# Altium integrated library Linear Technology Power Management LDO Linear Regulators.IntLib: 2339 symbols (part 68 of 131)
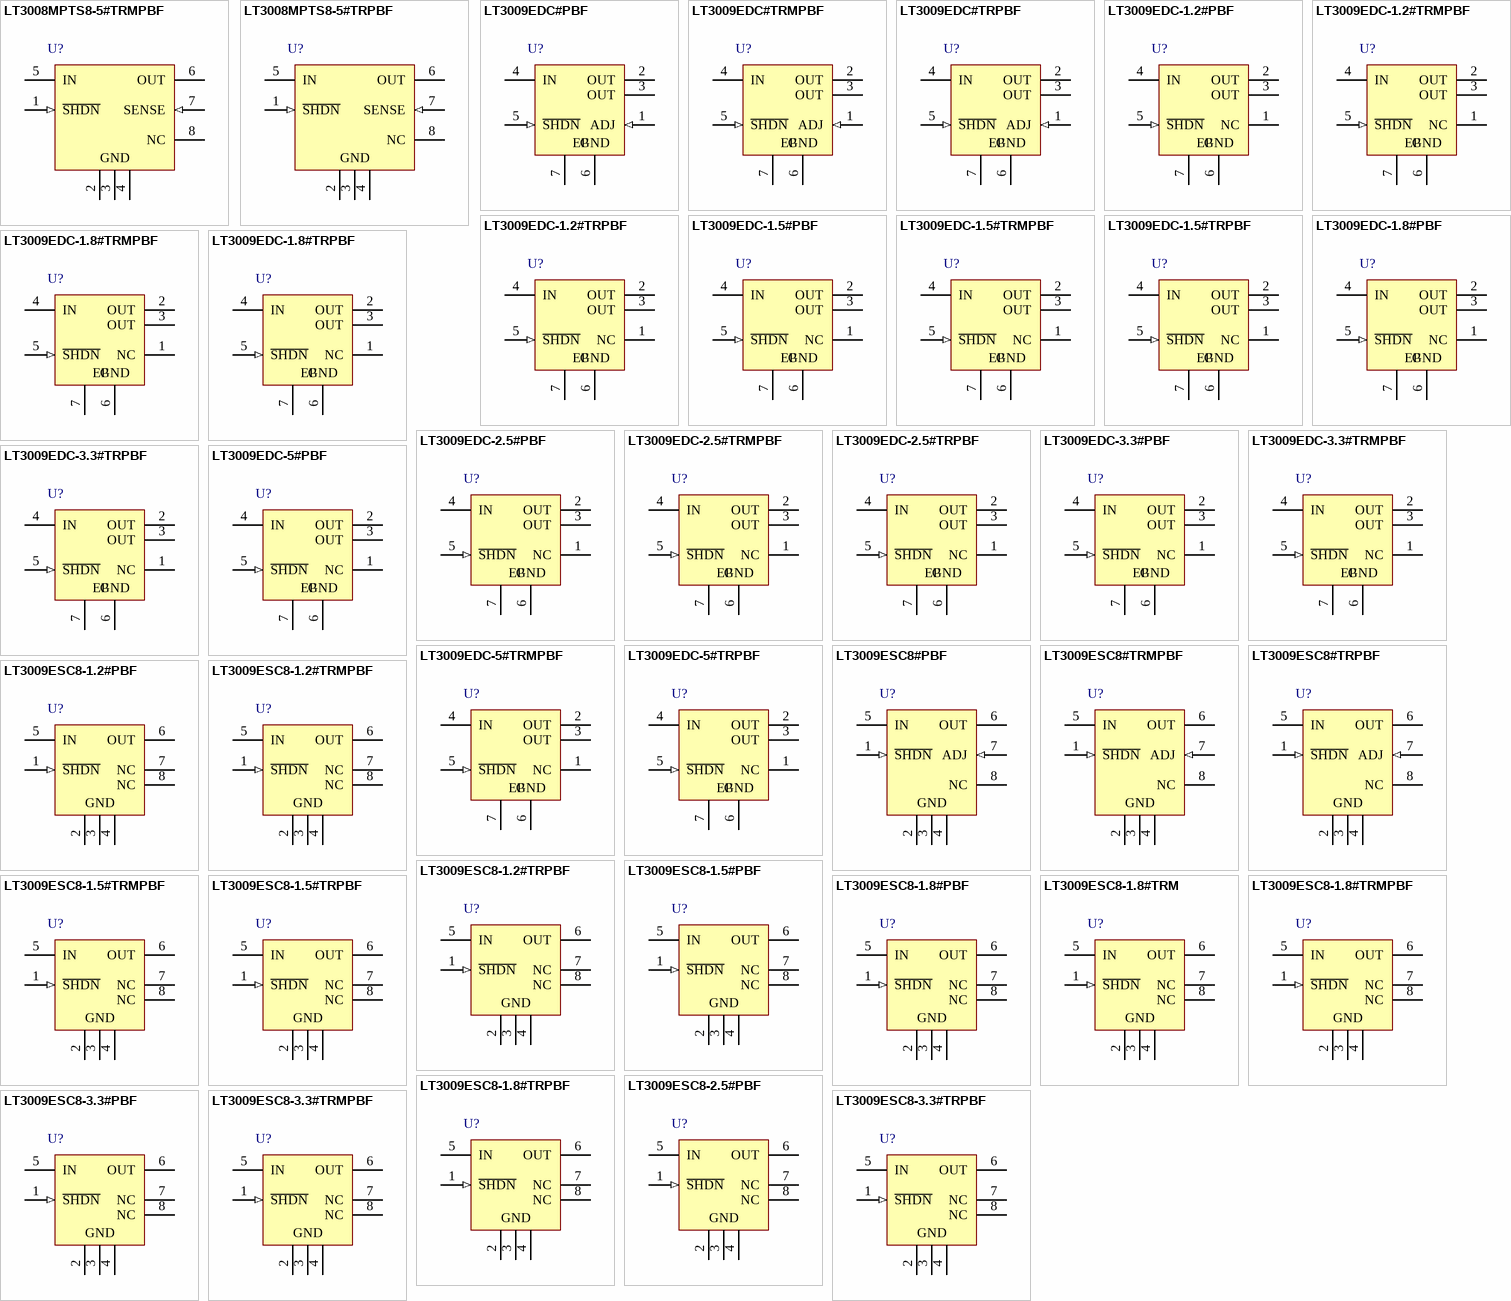
[diagram p136: symbols LT3008MPTS8-5#TRMPBF to LT3009ESC8-3.3#TRPBF]

## LT3009ESC8-2.5#PBF
designator U?
3 uA IQ, 20 mA Low Dropout Linear Regulator, 1.6 to 20 V Vin, 2.5 V Vout, 8-pin SOT23 (SC8-8), -40 to 125 degC, Pb-Free; Manufacturer: Linear Technology; PartNumber: LT3009ESC8-2.5#PBF; Discrete Pass Element: no; Dropout Voltage(V): 0.28; Iout(mA): 20; Isupply(mA): 0.003; Noise(uV): 150; Number of Outputs: 1; Output Voltage: 2.5 V; PSRR(dB): 63; Vin Min(V): 1.6; DatasheetVersion: Rev. D; PackageVersion: Rev. Ø, 06/2012; PackageReference: SC8-8; PackageDescription: 8-Pin Plastic SC70, Body 2 x 1.25 mm, Pitch 0.5 mm; RoHS: TRUE; Shutdown Current(uA): 1; Vin Max(V): 20; Mounting Technology: Surface Mount; Code_JEDEC: MO-203; ComponentLink1Description: Manufacturer URL; ComponentLink1URL: http://www.linear.com/; ComponentLink2Description: Datasheet; ComponentLink2URL: http://cds.linear.com/docs/en/datasheet/3009fd.pdf; ComponentLink3Description: Package Specification; ComponentLink3URL: http://cds.linear.com/docs/en/packaging/SOT_8_05-08-1639.pdf
footprint LT-SC8-8-SC70_N (SOT23, 8-Leads, Body 2x1.25mm, Pitch 0.5mm, IPC Medium Density)
footprint LT-SC8-8-SC70_L (SOT23, 8-Leads, Body 2x1.25mm, Pitch 0.5mm, IPC High Density)
footprint LT-SC8-8-SC70_M (SOT23, 8-Leads, Body 2x1.25mm, Pitch 0.5mm, IPC Low Density)
pins: 1 ~{SHDN} (in) "Shutdown. Pulling the S\H\D\N\ pin low puts the LT3009 into a low power state and turns the output off. If unused, tie the S\H\D\N\ pin to VIN. The LT3009 does not function if the S\H\D\N\ pin is not connected. The S\H\D\N\ (See Datasheet)", 2 GND (power) "Ground. Connect the bottom of the resistor divider that sets output voltage directly to GND for the best regulation.", 3 GND (power) "Ground. Connect the bottom of the resistor divider that sets output voltage directly to GND for the best regulation.", 4 GND (power) "Ground. Connect the bottom of the resistor divider that sets output voltage directly to GND for the best regulation.", 5 IN (power) "Input. The IN pin supplies power to the device. The LT3009 requires a bypass capacitor at IN if the device is more than six inches away from the main input fi lter capacitor. In general, the output impedance of a battery (See Datasheet)", 6 OUT (power) "Output. This pin supplies power to the load. Use a minimum output capacitor of 1uF to prevent oscillations. Large load transient applications require larger output capacitors to limit peak voltage transients. See the (See Datasheet)", 7 NC "No Connect. For the adjustable voltage version, Pin 8 is an NC pin in the SC70 package. For the fixed voltage versions, Pin 7 and Pin 8 are NC pins in the SC70 package, and Pin 1 is an NC pin in the DFN package. NC pins are (See Datasheet)", 8 NC "No Connect. For the adjustable voltage version, Pin 8 is an NC pin in the SC70 package. For the fixed voltage versions, Pin 7 and Pin 8 are NC pins in the SC70 package, and Pin 1 is an NC pin in the DFN package. NC pins are (See Datasheet)"

## LT3009ESC8-3.3#PBF
designator U?
3 uA IQ, 20 mA Low Dropout Linear Regulator, 1.6 to 20 V Vin, 3.3 V Vout, 8-pin SOT23 (SC8-8), -40 to 125 degC, Pb-Free; Manufacturer: Linear Technology; PartNumber: LT3009ESC8-3.3#PBF; Discrete Pass Element: no; Dropout Voltage(V): 0.28; Iout(mA): 20; Isupply(mA): 0.003; Noise(uV): 150; Number of Outputs: 1; Output Voltage: 3.3 V; PSRR(dB): 61; Vin Min(V): 1.6; DatasheetVersion: Rev. D; PackageVersion: Rev. Ø, 06/2012; PackageReference: SC8-8; PackageDescription: 8-Pin Plastic SC70, Body 2 x 1.25 mm, Pitch 0.5 mm; Supplier 1: Newark; Supplier Part Number 1: 78T3818; RoHS: TRUE; Shutdown Current(uA): 1; Vin Max(V): 20; Mounting Technology: Surface Mount; Code_JEDEC: MO-203; ComponentLink1Description: Manufacturer URL; ComponentLink1URL: http://www.linear.com/; ComponentLink2Description: Datasheet; ComponentLink2URL: http://cds.linear.com/docs/en/datasheet/3009fd.pdf; ComponentLink3Description: Package Specification; ComponentLink3URL: http://cds.linear.com/docs/en/packaging/SOT_8_05-08-1639.pdf
footprint LT-SC8-8-SC70_N (SOT23, 8-Leads, Body 2x1.25mm, Pitch 0.5mm, IPC Medium Density)
footprint LT-SC8-8-SC70_L (SOT23, 8-Leads, Body 2x1.25mm, Pitch 0.5mm, IPC High Density)
footprint LT-SC8-8-SC70_M (SOT23, 8-Leads, Body 2x1.25mm, Pitch 0.5mm, IPC Low Density)
pins: 1 ~{SHDN} (in) "Shutdown. Pulling the S\H\D\N\ pin low puts the LT3009 into a low power state and turns the output off. If unused, tie the S\H\D\N\ pin to VIN. The LT3009 does not function if the S\H\D\N\ pin is not connected. The S\H\D\N\ (See Datasheet)", 2 GND (power) "Ground. Connect the bottom of the resistor divider that sets output voltage directly to GND for the best regulation.", 3 GND (power) "Ground. Connect the bottom of the resistor divider that sets output voltage directly to GND for the best regulation.", 4 GND (power) "Ground. Connect the bottom of the resistor divider that sets output voltage directly to GND for the best regulation.", 5 IN (power) "Input. The IN pin supplies power to the device. The LT3009 requires a bypass capacitor at IN if the device is more than six inches away from the main input fi lter capacitor. In general, the output impedance of a battery (See Datasheet)", 6 OUT (power) "Output. This pin supplies power to the load. Use a minimum output capacitor of 1uF to prevent oscillations. Large load transient applications require larger output capacitors to limit peak voltage transients. See the (See Datasheet)", 7 NC "No Connect. For the adjustable voltage version, Pin 8 is an NC pin in the SC70 package. For the fixed voltage versions, Pin 7 and Pin 8 are NC pins in the SC70 package, and Pin 1 is an NC pin in the DFN package. NC pins are (See Datasheet)", 8 NC "No Connect. For the adjustable voltage version, Pin 8 is an NC pin in the SC70 package. For the fixed voltage versions, Pin 7 and Pin 8 are NC pins in the SC70 package, and Pin 1 is an NC pin in the DFN package. NC pins are (See Datasheet)"

## LT3009ESC8-3.3#TRMPBF
designator U?
3 uA IQ, 20 mA Low Dropout Linear Regulator, 1.6 to 20 V Vin, 3.3 V Vout, 8-pin SOT23 (SC8-8), -40 to 125 degC, Pb-Free, Mini Tape and Reel; Manufacturer: Linear Technology; PartNumber: LT3009ESC8-3.3#TRMPBF; Discrete Pass Element: no; Dropout Voltage(V): 0.28; Iout(mA): 20; Isupply(mA): 0.003; Noise(uV): 150; Number of Outputs: 1; Output Voltage: 3.3 V; PSRR(dB): 61; Vin Min(V): 1.6; DatasheetVersion: Rev. D; PackageVersion: Rev. Ø, 06/2012; PackageReference: SC8-8; PackageDescription: 8-Pin Plastic SC70, Body 2 x 1.25 mm, Pitch 0.5 mm; Supplier 1: Digi-Key; Supplier Part Number 1: LT3009ESC8-3.3#TRMPBF-ND; Supplier 2: Newark; Supplier Part Number 2: 79M3653; Packing: Mini Tape and Reel; RoHS: TRUE; Shutdown Current(uA): 1; Vin Max(V): 20; Mounting Technology: Surface Mount; Code_JEDEC: MO-203; ComponentLink1Description: Manufacturer URL; ComponentLink1URL: http://www.linear.com/; ComponentLink2Description: Datasheet; ComponentLink2URL: http://cds.linear.com/docs/en/datasheet/3009fd.pdf; ComponentLink3Description: Package Specification; ComponentLink3URL: http://cds.linear.com/docs/en/packaging/SOT_8_05-08-1639.pdf
footprint LT-SC8-8-SC70_N (SOT23, 8-Leads, Body 2x1.25mm, Pitch 0.5mm, IPC Medium Density)
footprint LT-SC8-8-SC70_L (SOT23, 8-Leads, Body 2x1.25mm, Pitch 0.5mm, IPC High Density)
footprint LT-SC8-8-SC70_M (SOT23, 8-Leads, Body 2x1.25mm, Pitch 0.5mm, IPC Low Density)
pins: 1 ~{SHDN} (in) "Shutdown. Pulling the S\H\D\N\ pin low puts the LT3009 into a low power state and turns the output off. If unused, tie the S\H\D\N\ pin to VIN. The LT3009 does not function if the S\H\D\N\ pin is not connected. The S\H\D\N\ (See Datasheet)", 2 GND (power) "Ground. Connect the bottom of the resistor divider that sets output voltage directly to GND for the best regulation.", 3 GND (power) "Ground. Connect the bottom of the resistor divider that sets output voltage directly to GND for the best regulation.", 4 GND (power) "Ground. Connect the bottom of the resistor divider that sets output voltage directly to GND for the best regulation.", 5 IN (power) "Input. The IN pin supplies power to the device. The LT3009 requires a bypass capacitor at IN if the device is more than six inches away from the main input fi lter capacitor. In general, the output impedance of a battery (See Datasheet)", 6 OUT (power) "Output. This pin supplies power to the load. Use a minimum output capacitor of 1uF to prevent oscillations. Large load transient applications require larger output capacitors to limit peak voltage transients. See the (See Datasheet)", 7 NC "No Connect. For the adjustable voltage version, Pin 8 is an NC pin in the SC70 package. For the fixed voltage versions, Pin 7 and Pin 8 are NC pins in the SC70 package, and Pin 1 is an NC pin in the DFN package. NC pins are (See Datasheet)", 8 NC "No Connect. For the adjustable voltage version, Pin 8 is an NC pin in the SC70 package. For the fixed voltage versions, Pin 7 and Pin 8 are NC pins in the SC70 package, and Pin 1 is an NC pin in the DFN package. NC pins are (See Datasheet)"

## LT3009ESC8-3.3#TRPBF
designator U?
3 uA IQ, 20 mA Low Dropout Linear Regulator, 1.6 to 20 V Vin, 3.3 V Vout, 8-pin SOT23 (SC8-8), -40 to 125 degC, Pb-Free, Tape and Reel; Manufacturer: Linear Technology; PartNumber: LT3009ESC8-3.3#TRPBF; Discrete Pass Element: no; Dropout Voltage(V): 0.28; Iout(mA): 20; Isupply(mA): 0.003; Noise(uV): 150; Number of Outputs: 1; Output Voltage: 3.3 V; PSRR(dB): 61; Vin Min(V): 1.6; DatasheetVersion: Rev. D; PackageVersion: Rev. Ø, 06/2012; PackageReference: SC8-8; PackageDescription: 8-Pin Plastic SC70, Body 2 x 1.25 mm, Pitch 0.5 mm; Supplier 1: Digi-Key; Supplier Part Number 1: LT3009ESC8-3.3#TRPBF-ND; Supplier 2: Newark; Supplier Part Number 2: 79M3654; Packing: Tape and Reel; RoHS: TRUE; Shutdown Current(uA): 1; Vin Max(V): 20; Mounting Technology: Surface Mount; Code_JEDEC: MO-203; ComponentLink1Description: Manufacturer URL; ComponentLink1URL: http://www.linear.com/; ComponentLink2Description: Datasheet; ComponentLink2URL: http://cds.linear.com/docs/en/datasheet/3009fd.pdf; ComponentLink3Description: Package Specification; ComponentLink3URL: http://cds.linear.com/docs/en/packaging/SOT_8_05-08-1639.pdf
footprint LT-SC8-8-SC70_N (SOT23, 8-Leads, Body 2x1.25mm, Pitch 0.5mm, IPC Medium Density)
footprint LT-SC8-8-SC70_L (SOT23, 8-Leads, Body 2x1.25mm, Pitch 0.5mm, IPC High Density)
footprint LT-SC8-8-SC70_M (SOT23, 8-Leads, Body 2x1.25mm, Pitch 0.5mm, IPC Low Density)
pins: 1 ~{SHDN} (in) "Shutdown. Pulling the S\H\D\N\ pin low puts the LT3009 into a low power state and turns the output off. If unused, tie the S\H\D\N\ pin to VIN. The LT3009 does not function if the S\H\D\N\ pin is not connected. The S\H\D\N\ (See Datasheet)", 2 GND (power) "Ground. Connect the bottom of the resistor divider that sets output voltage directly to GND for the best regulation.", 3 GND (power) "Ground. Connect the bottom of the resistor divider that sets output voltage directly to GND for the best regulation.", 4 GND (power) "Ground. Connect the bottom of the resistor divider that sets output voltage directly to GND for the best regulation.", 5 IN (power) "Input. The IN pin supplies power to the device. The LT3009 requires a bypass capacitor at IN if the device is more than six inches away from the main input fi lter capacitor. In general, the output impedance of a battery (See Datasheet)", 6 OUT (power) "Output. This pin supplies power to the load. Use a minimum output capacitor of 1uF to prevent oscillations. Large load transient applications require larger output capacitors to limit peak voltage transients. See the (See Datasheet)", 7 NC "No Connect. For the adjustable voltage version, Pin 8 is an NC pin in the SC70 package. For the fixed voltage versions, Pin 7 and Pin 8 are NC pins in the SC70 package, and Pin 1 is an NC pin in the DFN package. NC pins are (See Datasheet)", 8 NC "No Connect. For the adjustable voltage version, Pin 8 is an NC pin in the SC70 package. For the fixed voltage versions, Pin 7 and Pin 8 are NC pins in the SC70 package, and Pin 1 is an NC pin in the DFN package. NC pins are (See Datasheet)"

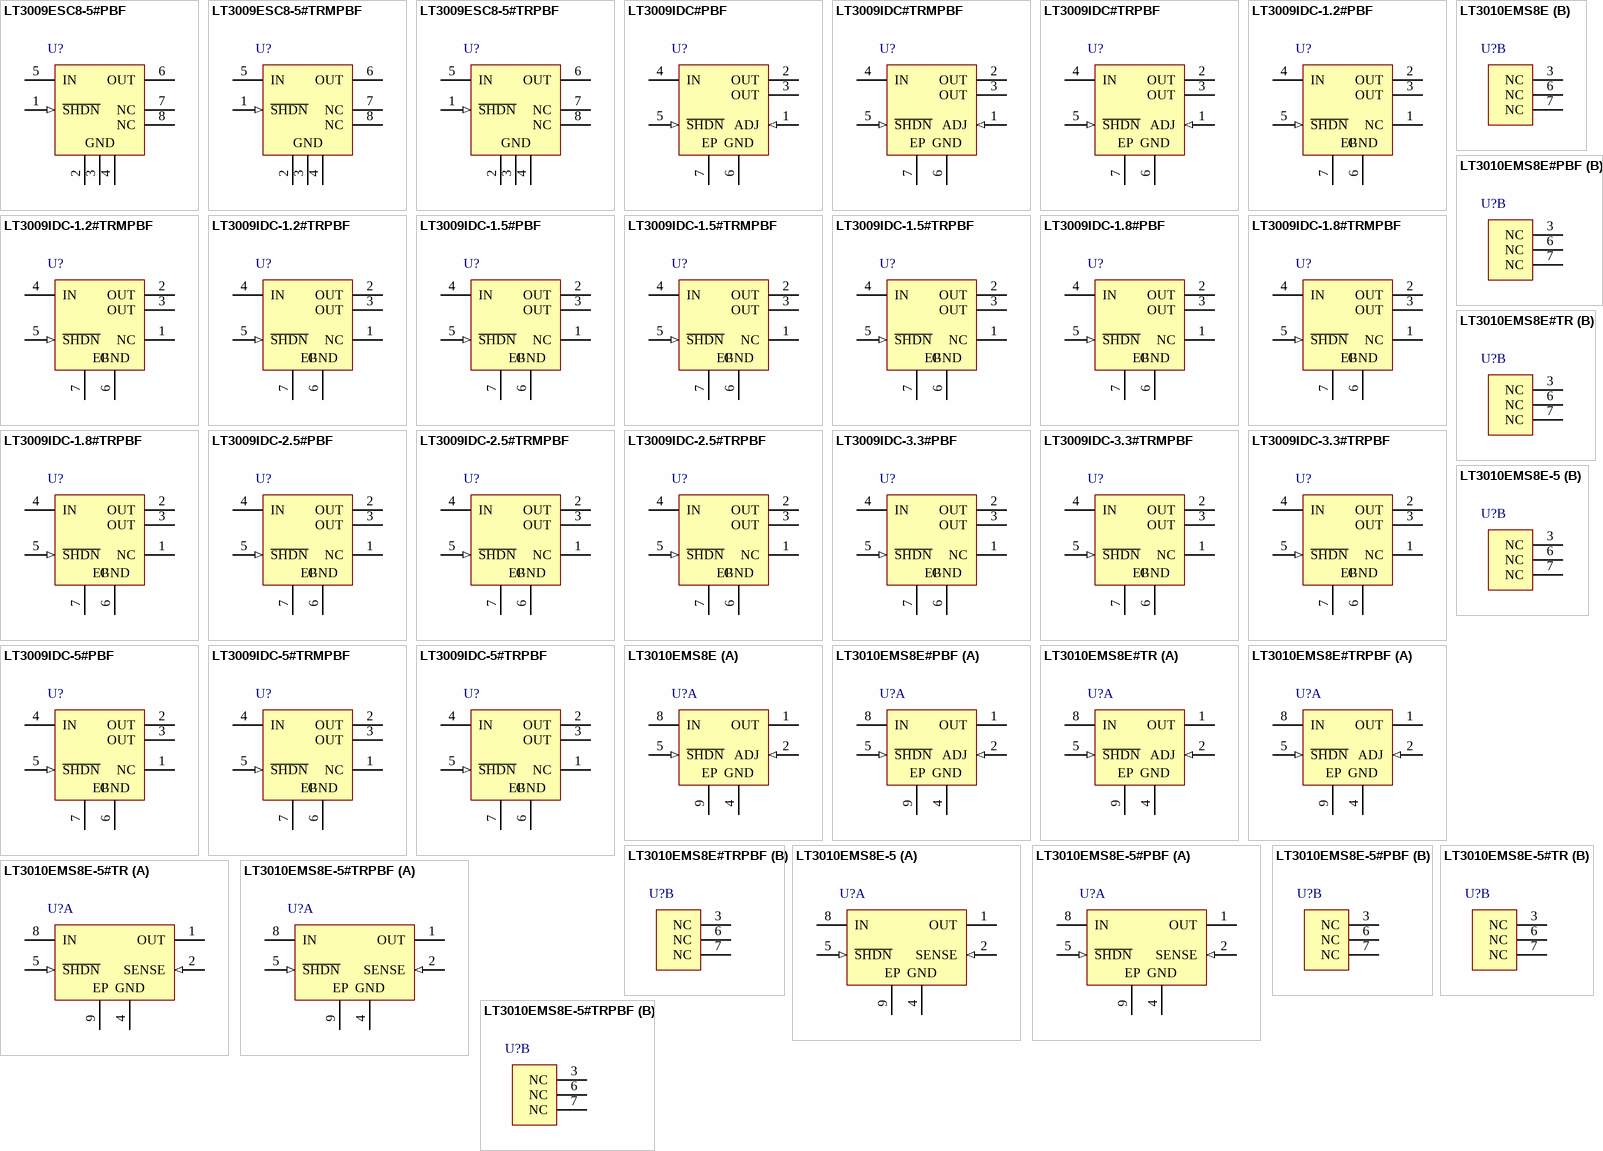
[diagram p42: symbols LT3009ESC8-5#PBF to LT3010EMS8E-5#TRPBF]

## LT3009ESC8-5#PBF
designator U?
3 uA IQ, 20 mA Low Dropout Linear Regulator, 1.6 to 20 V Vin, 5 V Vout, 8-pin SOT23 (SC8-8), -40 to 125 degC, Pb-Free; Manufacturer: Linear Technology; PartNumber: LT3009ESC8-5#PBF; Discrete Pass Element: no; Dropout Voltage(V): 0.28; Iout(mA): 20; Isupply(mA): 0.003; Noise(uV): 150; Number of Outputs: 1; Output Voltage: 5 V; PSRR(dB): 56; Vin Min(V): 1.6; DatasheetVersion: Rev. D; PackageVersion: Rev. Ø, 06/2012; PackageReference: SC8-8; PackageDescription: 8-Pin Plastic SC70, Body 2 x 1.25 mm, Pitch 0.5 mm; Supplier 1: Newark; Supplier Part Number 1: 78T3819; RoHS: TRUE; Shutdown Current(uA): 1; Vin Max(V): 20; Mounting Technology: Surface Mount; Code_JEDEC: MO-203; ComponentLink1Description: Manufacturer URL; ComponentLink1URL: http://www.linear.com/; ComponentLink2Description: Datasheet; ComponentLink2URL: http://cds.linear.com/docs/en/datasheet/3009fd.pdf; ComponentLink3Description: Package Specification; ComponentLink3URL: http://cds.linear.com/docs/en/packaging/SOT_8_05-08-1639.pdf
footprint LT-SC8-8-SC70_N (SOT23, 8-Leads, Body 2x1.25mm, Pitch 0.5mm, IPC Medium Density)
footprint LT-SC8-8-SC70_L (SOT23, 8-Leads, Body 2x1.25mm, Pitch 0.5mm, IPC High Density)
footprint LT-SC8-8-SC70_M (SOT23, 8-Leads, Body 2x1.25mm, Pitch 0.5mm, IPC Low Density)
pins: 1 ~{SHDN} (in) "Shutdown. Pulling the S\H\D\N\ pin low puts the LT3009 into a low power state and turns the output off. If unused, tie the S\H\D\N\ pin to VIN. The LT3009 does not function if the S\H\D\N\ pin is not connected. The S\H\D\N\ (See Datasheet)", 2 GND (power) "Ground. Connect the bottom of the resistor divider that sets output voltage directly to GND for the best regulation.", 3 GND (power) "Ground. Connect the bottom of the resistor divider that sets output voltage directly to GND for the best regulation.", 4 GND (power) "Ground. Connect the bottom of the resistor divider that sets output voltage directly to GND for the best regulation.", 5 IN (power) "Input. The IN pin supplies power to the device. The LT3009 requires a bypass capacitor at IN if the device is more than six inches away from the main input fi lter capacitor. In general, the output impedance of a battery (See Datasheet)", 6 OUT (power) "Output. This pin supplies power to the load. Use a minimum output capacitor of 1uF to prevent oscillations. Large load transient applications require larger output capacitors to limit peak voltage transients. See the (See Datasheet)", 7 NC "No Connect. For the adjustable voltage version, Pin 8 is an NC pin in the SC70 package. For the fixed voltage versions, Pin 7 and Pin 8 are NC pins in the SC70 package, and Pin 1 is an NC pin in the DFN package. NC pins are (See Datasheet)", 8 NC "No Connect. For the adjustable voltage version, Pin 8 is an NC pin in the SC70 package. For the fixed voltage versions, Pin 7 and Pin 8 are NC pins in the SC70 package, and Pin 1 is an NC pin in the DFN package. NC pins are (See Datasheet)"

## LT3009ESC8-5#TRMPBF
designator U?
3 uA IQ, 20 mA Low Dropout Linear Regulator, 1.6 to 20 V Vin, 5 V Vout, 8-pin SOT23 (SC8-8), -40 to 125 degC, Pb-Free, Mini Tape and Reel; Manufacturer: Linear Technology; PartNumber: LT3009ESC8-5#TRMPBF; Discrete Pass Element: no; Dropout Voltage(V): 0.28; Iout(mA): 20; Isupply(mA): 0.003; Noise(uV): 150; Number of Outputs: 1; Output Voltage: 5 V; PSRR(dB): 56; Vin Min(V): 1.6; DatasheetVersion: Rev. D; PackageVersion: Rev. Ø, 06/2012; PackageReference: SC8-8; PackageDescription: 8-Pin Plastic SC70, Body 2 x 1.25 mm, Pitch 0.5 mm; Supplier 1: Digi-Key; Supplier Part Number 1: LT3009ESC8-5#TRMPBF-ND; Packing: Mini Tape and Reel; RoHS: TRUE; Shutdown Current(uA): 1; Vin Max(V): 20; Mounting Technology: Surface Mount; Code_JEDEC: MO-203; ComponentLink1Description: Manufacturer URL; ComponentLink1URL: http://www.linear.com/; ComponentLink2Description: Datasheet; ComponentLink2URL: http://cds.linear.com/docs/en/datasheet/3009fd.pdf; ComponentLink3Description: Package Specification; ComponentLink3URL: http://cds.linear.com/docs/en/packaging/SOT_8_05-08-1639.pdf
footprint LT-SC8-8-SC70_N (SOT23, 8-Leads, Body 2x1.25mm, Pitch 0.5mm, IPC Medium Density)
footprint LT-SC8-8-SC70_L (SOT23, 8-Leads, Body 2x1.25mm, Pitch 0.5mm, IPC High Density)
footprint LT-SC8-8-SC70_M (SOT23, 8-Leads, Body 2x1.25mm, Pitch 0.5mm, IPC Low Density)
pins: 1 ~{SHDN} (in) "Shutdown. Pulling the S\H\D\N\ pin low puts the LT3009 into a low power state and turns the output off. If unused, tie the S\H\D\N\ pin to VIN. The LT3009 does not function if the S\H\D\N\ pin is not connected. The S\H\D\N\ (See Datasheet)", 2 GND (power) "Ground. Connect the bottom of the resistor divider that sets output voltage directly to GND for the best regulation.", 3 GND (power) "Ground. Connect the bottom of the resistor divider that sets output voltage directly to GND for the best regulation.", 4 GND (power) "Ground. Connect the bottom of the resistor divider that sets output voltage directly to GND for the best regulation.", 5 IN (power) "Input. The IN pin supplies power to the device. The LT3009 requires a bypass capacitor at IN if the device is more than six inches away from the main input fi lter capacitor. In general, the output impedance of a battery (See Datasheet)", 6 OUT (power) "Output. This pin supplies power to the load. Use a minimum output capacitor of 1uF to prevent oscillations. Large load transient applications require larger output capacitors to limit peak voltage transients. See the (See Datasheet)", 7 NC "No Connect. For the adjustable voltage version, Pin 8 is an NC pin in the SC70 package. For the fixed voltage versions, Pin 7 and Pin 8 are NC pins in the SC70 package, and Pin 1 is an NC pin in the DFN package. NC pins are (See Datasheet)", 8 NC "No Connect. For the adjustable voltage version, Pin 8 is an NC pin in the SC70 package. For the fixed voltage versions, Pin 7 and Pin 8 are NC pins in the SC70 package, and Pin 1 is an NC pin in the DFN package. NC pins are (See Datasheet)"

## LT3009ESC8-5#TRPBF
designator U?
3 uA IQ, 20 mA Low Dropout Linear Regulator, 1.6 to 20 V Vin, 5 V Vout, 8-pin SOT23 (SC8-8), -40 to 125 degC, Pb-Free, Tape and Reel; Manufacturer: Linear Technology; PartNumber: LT3009ESC8-5#TRPBF; Discrete Pass Element: no; Dropout Voltage(V): 0.28; Iout(mA): 20; Isupply(mA): 0.003; Noise(uV): 150; Number of Outputs: 1; Output Voltage: 5 V; PSRR(dB): 56; Vin Min(V): 1.6; DatasheetVersion: Rev. D; PackageVersion: Rev. Ø, 06/2012; PackageReference: SC8-8; PackageDescription: 8-Pin Plastic SC70, Body 2 x 1.25 mm, Pitch 0.5 mm; Supplier 1: Digi-Key; Supplier Part Number 1: LT3009ESC8-5#TRPBF-ND; Supplier 2: Newark; Supplier Part Number 2: 88M1938; Packing: Tape and Reel; RoHS: TRUE; Shutdown Current(uA): 1; Vin Max(V): 20; Mounting Technology: Surface Mount; Code_JEDEC: MO-203; ComponentLink1Description: Manufacturer URL; ComponentLink1URL: http://www.linear.com/; ComponentLink2Description: Datasheet; ComponentLink2URL: http://cds.linear.com/docs/en/datasheet/3009fd.pdf; ComponentLink3Description: Package Specification; ComponentLink3URL: http://cds.linear.com/docs/en/packaging/SOT_8_05-08-1639.pdf
footprint LT-SC8-8-SC70_N (SOT23, 8-Leads, Body 2x1.25mm, Pitch 0.5mm, IPC Medium Density)
footprint LT-SC8-8-SC70_L (SOT23, 8-Leads, Body 2x1.25mm, Pitch 0.5mm, IPC High Density)
footprint LT-SC8-8-SC70_M (SOT23, 8-Leads, Body 2x1.25mm, Pitch 0.5mm, IPC Low Density)
pins: 1 ~{SHDN} (in) "Shutdown. Pulling the S\H\D\N\ pin low puts the LT3009 into a low power state and turns the output off. If unused, tie the S\H\D\N\ pin to VIN. The LT3009 does not function if the S\H\D\N\ pin is not connected. The S\H\D\N\ (See Datasheet)", 2 GND (power) "Ground. Connect the bottom of the resistor divider that sets output voltage directly to GND for the best regulation.", 3 GND (power) "Ground. Connect the bottom of the resistor divider that sets output voltage directly to GND for the best regulation.", 4 GND (power) "Ground. Connect the bottom of the resistor divider that sets output voltage directly to GND for the best regulation.", 5 IN (power) "Input. The IN pin supplies power to the device. The LT3009 requires a bypass capacitor at IN if the device is more than six inches away from the main input fi lter capacitor. In general, the output impedance of a battery (See Datasheet)", 6 OUT (power) "Output. This pin supplies power to the load. Use a minimum output capacitor of 1uF to prevent oscillations. Large load transient applications require larger output capacitors to limit peak voltage transients. See the (See Datasheet)", 7 NC "No Connect. For the adjustable voltage version, Pin 8 is an NC pin in the SC70 package. For the fixed voltage versions, Pin 7 and Pin 8 are NC pins in the SC70 package, and Pin 1 is an NC pin in the DFN package. NC pins are (See Datasheet)", 8 NC "No Connect. For the adjustable voltage version, Pin 8 is an NC pin in the SC70 package. For the fixed voltage versions, Pin 7 and Pin 8 are NC pins in the SC70 package, and Pin 1 is an NC pin in the DFN package. NC pins are (See Datasheet)"

## LT3009IDC#PBF
designator U?
3 uA IQ, 20 mA Low Dropout Linear Regulator, 1.6 to 20 V Vin, Adjustable Vout, 6-pin SON (DC6-6), -40 to 125 degC, Pb-Free; Manufacturer: Linear Technology; PartNumber: LT3009IDC#PBF; Discrete Pass Element: no; Dropout Voltage(V): 0.28; Iout(mA): 20; Isupply(mA): 0.003; Noise(uV): 150; Number of Outputs: 1; Output Voltage: Adj; PSRR(dB): 72; Vin Min(V): 1.6; Vout Max(V): 19.5; Vout Min(V): 0.6; DatasheetVersion: Rev. D; PackageVersion: Rev. B, 06/2010; PackageReference: DC6-6; PackageDescription: 6-Pin Plastic DFN, Body 2 x 2 mm, Pitch 0.5 mm; Supplier 1: Newark; Supplier Part Number 1: 78T3827; RoHS: TRUE; Shutdown Current(uA): 1; Vin Max(V): 20; Mounting Technology: Surface Mount; Code_JEDEC: MO-229; ComponentLink1Description: Manufacturer URL; ComponentLink1URL: http://www.linear.com/; ComponentLink2Description: Datasheet; ComponentLink2URL: http://cds.linear.com/docs/en/datasheet/3009fd.pdf; ComponentLink3Description: Package Specification; ComponentLink3URL: http://cds.linear.com/docs/en/packaging/DFN_6_05-08-1703.pdf
footprint LT-DC6-6_V (SON, 6-Leads, Body 2x2mm, Pitch 0.5mm, Thermal Pad 1.42x0.61mm)
pins: 1 ADJ (in) "Adjust. This pin is the error amplifier’sinverting terminal. Its 300pA typical input bias current flows out of the pin (see curve of ADJ Pin Bias Current vs Temperature in the Typical Performance Characteristics section)(See Datasheet)", 2 OUT (power) "Output. This pin supplies power to the load. Use a minimum output capacitor of 1uF to prevent oscillations. Large load transient applications require larger output capacitors to limit peak voltage transients. See the (See Datasheet)", 3 OUT (power) "Output. This pin supplies power to the load. Use a minimum output capacitor of 1uF to prevent oscillations. Large load transient applications require larger output capacitors to limit peak voltage transients. See the (See Datasheet)", 4 IN (power) "Input. The IN pin supplies power to the device. The LT3009 requires a bypass capacitor at IN if the device is more than six inches away from the main input filter  capacitor. In general, the output impedance of a battery (See Datasheet)", 5 ~{SHDN} (in) "Shutdown. Pulling the S\H\D\N\ pin low puts the LT3009 into a low power state and turns the output off. If unused, tie the S\H\D\N\ pin to VIN. The LT3009 does not function if the S\H\D\N\ pin is not connected. The S\H\D\N\ (See Datasheet)", 6 GND (power) "Ground. Connect the bottom of the resistor divider that sets output voltage directly to GND for the best regulation.", 7 EP (power) "Ground. The Exposed Pad (backside) of the DFN package is an electrical connection to GND. To ensure optimum performance, solder Pin 7 to the PCB and tie directly to Pin 6."

## LT3009IDC#TRMPBF
designator U?
3 uA IQ, 20 mA Low Dropout Linear Regulator, 1.6 to 20 V Vin, Adjustable Vout, 6-pin SON (DC6-6), -40 to 125 degC, Pb-Free, Mini Tape and Reel; Manufacturer: Linear Technology; PartNumber: LT3009IDC#TRMPBF; Discrete Pass Element: no; Dropout Voltage(V): 0.28; Iout(mA): 20; Isupply(mA): 0.003; Noise(uV): 150; Number of Outputs: 1; Output Voltage: Adj; PSRR(dB): 72; Vin Min(V): 1.6; Vout Max(V): 19.5; Vout Min(V): 0.6; DatasheetVersion: Rev. D; PackageVersion: Rev. B, 06/2010; PackageReference: DC6-6; PackageDescription: 6-Pin Plastic DFN, Body 2 x 2 mm, Pitch 0.5 mm; Supplier 1: Digi-Key; Supplier Part Number 1: LT3009IDC#TRMPBF-ND; Packing: Mini Tape and Reel; RoHS: TRUE; Shutdown Current(uA): 1; Vin Max(V): 20; Mounting Technology: Surface Mount; Code_JEDEC: MO-229; ComponentLink1Description: Manufacturer URL; ComponentLink1URL: http://www.linear.com/; ComponentLink2Description: Datasheet; ComponentLink2URL: http://cds.linear.com/docs/en/datasheet/3009fd.pdf; ComponentLink3Description: Package Specification; ComponentLink3URL: http://cds.linear.com/docs/en/packaging/DFN_6_05-08-1703.pdf
footprint LT-DC6-6_V (SON, 6-Leads, Body 2x2mm, Pitch 0.5mm, Thermal Pad 1.42x0.61mm)
pins: 1 ADJ (in) "Adjust. This pin is the error amplifier’sinverting terminal. Its 300pA typical input bias current flows out of the pin (see curve of ADJ Pin Bias Current vs Temperature in the Typical Performance Characteristics section)(See Datasheet)", 2 OUT (power) "Output. This pin supplies power to the load. Use a minimum output capacitor of 1uF to prevent oscillations. Large load transient applications require larger output capacitors to limit peak voltage transients. See the (See Datasheet)", 3 OUT (power) "Output. This pin supplies power to the load. Use a minimum output capacitor of 1uF to prevent oscillations. Large load transient applications require larger output capacitors to limit peak voltage transients. See the (See Datasheet)", 4 IN (power) "Input. The IN pin supplies power to the device. The LT3009 requires a bypass capacitor at IN if the device is more than six inches away from the main input filter  capacitor. In general, the output impedance of a battery (See Datasheet)", 5 ~{SHDN} (in) "Shutdown. Pulling the S\H\D\N\ pin low puts the LT3009 into a low power state and turns the output off. If unused, tie the S\H\D\N\ pin to VIN. The LT3009 does not function if the S\H\D\N\ pin is not connected. The S\H\D\N\ (See Datasheet)", 6 GND (power) "Ground. Connect the bottom of the resistor divider that sets output voltage directly to GND for the best regulation.", 7 EP (power) "Ground. The Exposed Pad (backside) of the DFN package is an electrical connection to GND. To ensure optimum performance, solder Pin 7 to the PCB and tie directly to Pin 6."

## LT3009IDC#TRPBF
designator U?
3 uA IQ, 20 mA Low Dropout Linear Regulator, 1.6 to 20 V Vin, Adjustable Vout, 6-pin SON (DC6-6), -40 to 125 degC, Pb-Free, Tape and Reel; Manufacturer: Linear Technology; PartNumber: LT3009IDC#TRPBF; Discrete Pass Element: no; Dropout Voltage(V): 0.28; Iout(mA): 20; Isupply(mA): 0.003; Noise(uV): 150; Number of Outputs: 1; Output Voltage: Adj; PSRR(dB): 72; Vin Min(V): 1.6; Vout Max(V): 19.5; Vout Min(V): 0.6; DatasheetVersion: Rev. D; PackageVersion: Rev. B, 06/2010; PackageReference: DC6-6; PackageDescription: 6-Pin Plastic DFN, Body 2 x 2 mm, Pitch 0.5 mm; Supplier 1: Digi-Key; Supplier Part Number 1: LT3009IDC#TRPBF-ND; Packing: Tape and Reel; RoHS: TRUE; Shutdown Current(uA): 1; Vin Max(V): 20; Mounting Technology: Surface Mount; Code_JEDEC: MO-229; ComponentLink1Description: Manufacturer URL; ComponentLink1URL: http://www.linear.com/; ComponentLink2Description: Datasheet; ComponentLink2URL: http://cds.linear.com/docs/en/datasheet/3009fd.pdf; ComponentLink3Description: Package Specification; ComponentLink3URL: http://cds.linear.com/docs/en/packaging/DFN_6_05-08-1703.pdf
footprint LT-DC6-6_V (SON, 6-Leads, Body 2x2mm, Pitch 0.5mm, Thermal Pad 1.42x0.61mm)
pins: 1 ADJ (in) "Adjust. This pin is the error amplifier’sinverting terminal. Its 300pA typical input bias current flows out of the pin (see curve of ADJ Pin Bias Current vs Temperature in the Typical Performance Characteristics section)(See Datasheet)", 2 OUT (power) "Output. This pin supplies power to the load. Use a minimum output capacitor of 1uF to prevent oscillations. Large load transient applications require larger output capacitors to limit peak voltage transients. See the (See Datasheet)", 3 OUT (power) "Output. This pin supplies power to the load. Use a minimum output capacitor of 1uF to prevent oscillations. Large load transient applications require larger output capacitors to limit peak voltage transients. See the (See Datasheet)", 4 IN (power) "Input. The IN pin supplies power to the device. The LT3009 requires a bypass capacitor at IN if the device is more than six inches away from the main input filter  capacitor. In general, the output impedance of a battery (See Datasheet)", 5 ~{SHDN} (in) "Shutdown. Pulling the S\H\D\N\ pin low puts the LT3009 into a low power state and turns the output off. If unused, tie the S\H\D\N\ pin to VIN. The LT3009 does not function if the S\H\D\N\ pin is not connected. The S\H\D\N\ (See Datasheet)", 6 GND (power) "Ground. Connect the bottom of the resistor divider that sets output voltage directly to GND for the best regulation.", 7 EP (power) "Ground. The Exposed Pad (backside) of the DFN package is an electrical connection to GND. To ensure optimum performance, solder Pin 7 to the PCB and tie directly to Pin 6."

## LT3009IDC-1.2#PBF
designator U?
3 uA IQ, 20 mA Low Dropout Linear Regulator, 1.6 to 20 V Vin, 1.2 V Vout, 6-pin SON (DC6-6), -40 to 125 degC, Pb-Free; Manufacturer: Linear Technology; PartNumber: LT3009IDC-1.2#PBF; Discrete Pass Element: no; Dropout Voltage(V): 0.28; Iout(mA): 20; Isupply(mA): 0.003; Noise(uV): 150; Number of Outputs: 1; Output Voltage: 1.2 V; PSRR(dB): 68; Vin Min(V): 1.6; DatasheetVersion: Rev. D; PackageVersion: Rev. B, 06/2010; PackageReference: DC6-6; PackageDescription: 6-Pin Plastic DFN, Body 2 x 2 mm, Pitch 0.5 mm; RoHS: TRUE; Shutdown Current(uA): 1; Vin Max(V): 20; Mounting Technology: Surface Mount; Code_JEDEC: MO-229; ComponentLink1Description: Manufacturer URL; ComponentLink1URL: http://www.linear.com/; ComponentLink2Description: Datasheet; ComponentLink2URL: http://cds.linear.com/docs/en/datasheet/3009fd.pdf; ComponentLink3Description: Package Specification; ComponentLink3URL: http://cds.linear.com/docs/en/packaging/DFN_6_05-08-1703.pdf
footprint LT-DC6-6_V (SON, 6-Leads, Body 2x2mm, Pitch 0.5mm, Thermal Pad 1.42x0.61mm)
pins: 1 NC "No Connect. For the adjustable voltage version, Pin 8 is an NC pin in the SC70 package. For the fi xed voltage versions, Pin 7 and Pin 8 are NC pins in the SC70 package, and Pin 1 is an NC pin in the DFN package. NC pins are (See Datasheet)", 2 OUT (power) "Output. This pin supplies power to the load. Use a minimum output capacitor of 1uF to prevent oscillations. Large load transient applications require larger output capacitors to limit peak voltage transients. See the (See Datasheet)", 3 OUT (power) "Output. This pin supplies power to the load. Use a minimum output capacitor of 1uF to prevent oscillations. Large load transient applications require larger output capacitors to limit peak voltage transients. See the (See Datasheet)", 4 IN (power) "Input. The IN pin supplies power to the device. The LT3009 requires a bypass capacitor at IN if the device is more than six inches away from the main input fi lter capacitor. In general, the output impedance of a battery (See Datasheet)", 5 ~{SHDN} (in) "Shutdown. Pulling the S\H\D\N\ pin low puts the LT3009 into a low power state and turns the output off. If unused, tie the S\H\D\N\ pin to VIN. The LT3009 does not function if the S\H\D\N\ pin is not connected. The S\H\D\N\ (See Datasheet)", 6 GND (power) "Ground. Connect the bottom of the resistor divider that sets output voltage directly to GND for the best regulation.", 7 EP (power) "Ground. The Exposed Pad (backside) of the DFN package is an electrical connection to GND. To ensure optimum performance, solder Pin 7 to the PCB and tie directly to Pin 6."

## LT3009IDC-1.2#TRMPBF
designator U?
3 uA IQ, 20 mA Low Dropout Linear Regulator, 1.6 to 20 V Vin, 1.2 V Vout, 6-pin SON (DC6-6), -40 to 125 degC, Pb-Free, Mini Tape and Reel; Manufacturer: Linear Technology; PartNumber: LT3009IDC-1.2#TRMPBF; Discrete Pass Element: no; Dropout Voltage(V): 0.28; Iout(mA): 20; Isupply(mA): 0.003; Noise(uV): 150; Number of Outputs: 1; Output Voltage: 1.2 V; PSRR(dB): 68; Vin Min(V): 1.6; DatasheetVersion: Rev. D; PackageVersion: Rev. B, 06/2010; PackageReference: DC6-6; PackageDescription: 6-Pin Plastic DFN, Body 2 x 2 mm, Pitch 0.5 mm; Supplier 1: Digi-Key; Supplier Part Number 1: LT3009IDC-1.2#TRMPBF-ND; Packing: Mini Tape and Reel; RoHS: TRUE; Shutdown Current(uA): 1; Vin Max(V): 20; Mounting Technology: Surface Mount; Code_JEDEC: MO-229; ComponentLink1Description: Manufacturer URL; ComponentLink1URL: http://www.linear.com/; ComponentLink2Description: Datasheet; ComponentLink2URL: http://cds.linear.com/docs/en/datasheet/3009fd.pdf; ComponentLink3Description: Package Specification; ComponentLink3URL: http://cds.linear.com/docs/en/packaging/DFN_6_05-08-1703.pdf
footprint LT-DC6-6_V (SON, 6-Leads, Body 2x2mm, Pitch 0.5mm, Thermal Pad 1.42x0.61mm)
pins: 1 NC "No Connect. For the adjustable voltage version, Pin 8 is an NC pin in the SC70 package. For the fi xed voltage versions, Pin 7 and Pin 8 are NC pins in the SC70 package, and Pin 1 is an NC pin in the DFN package. NC pins are (See Datasheet)", 2 OUT (power) "Output. This pin supplies power to the load. Use a minimum output capacitor of 1uF to prevent oscillations. Large load transient applications require larger output capacitors to limit peak voltage transients. See the (See Datasheet)", 3 OUT (power) "Output. This pin supplies power to the load. Use a minimum output capacitor of 1uF to prevent oscillations. Large load transient applications require larger output capacitors to limit peak voltage transients. See the (See Datasheet)", 4 IN (power) "Input. The IN pin supplies power to the device. The LT3009 requires a bypass capacitor at IN if the device is more than six inches away from the main input fi lter capacitor. In general, the output impedance of a battery (See Datasheet)", 5 ~{SHDN} (in) "Shutdown. Pulling the S\H\D\N\ pin low puts the LT3009 into a low power state and turns the output off. If unused, tie the S\H\D\N\ pin to VIN. The LT3009 does not function if the S\H\D\N\ pin is not connected. The S\H\D\N\ (See Datasheet)", 6 GND (power) "Ground. Connect the bottom of the resistor divider that sets output voltage directly to GND for the best regulation.", 7 EP (power) "Ground. The Exposed Pad (backside) of the DFN package is an electrical connection to GND. To ensure optimum performance, solder Pin 7 to the PCB and tie directly to Pin 6."

## LT3009IDC-1.2#TRPBF
designator U?
3 uA IQ, 20 mA Low Dropout Linear Regulator, 1.6 to 20 V Vin, 1.2 V Vout, 6-pin SON (DC6-6), -40 to 125 degC, Pb-Free, Tape and Reel; Manufacturer: Linear Technology; PartNumber: LT3009IDC-1.2#TRPBF; Discrete Pass Element: no; Dropout Voltage(V): 0.28; Iout(mA): 20; Isupply(mA): 0.003; Noise(uV): 150; Number of Outputs: 1; Output Voltage: 1.2 V; PSRR(dB): 68; Vin Min(V): 1.6; DatasheetVersion: Rev. D; PackageVersion: Rev. B, 06/2010; PackageReference: DC6-6; PackageDescription: 6-Pin Plastic DFN, Body 2 x 2 mm, Pitch 0.5 mm; Supplier 1: Digi-Key; Supplier Part Number 1: LT3009IDC-1.2#TRPBF-ND; Supplier 2: Newark; Supplier Part Number 2: 07P8394; Packing: Tape and Reel; RoHS: TRUE; Shutdown Current(uA): 1; Vin Max(V): 20; Mounting Technology: Surface Mount; Code_JEDEC: MO-229; ComponentLink1Description: Manufacturer URL; ComponentLink1URL: http://www.linear.com/; ComponentLink2Description: Datasheet; ComponentLink2URL: http://cds.linear.com/docs/en/datasheet/3009fd.pdf; ComponentLink3Description: Package Specification; ComponentLink3URL: http://cds.linear.com/docs/en/packaging/DFN_6_05-08-1703.pdf
footprint LT-DC6-6_V (SON, 6-Leads, Body 2x2mm, Pitch 0.5mm, Thermal Pad 1.42x0.61mm)
pins: 1 NC "No Connect. For the adjustable voltage version, Pin 8 is an NC pin in the SC70 package. For the fi xed voltage versions, Pin 7 and Pin 8 are NC pins in the SC70 package, and Pin 1 is an NC pin in the DFN package. NC pins are (See Datasheet)", 2 OUT (power) "Output. This pin supplies power to the load. Use a minimum output capacitor of 1uF to prevent oscillations. Large load transient applications require larger output capacitors to limit peak voltage transients. See the (See Datasheet)", 3 OUT (power) "Output. This pin supplies power to the load. Use a minimum output capacitor of 1uF to prevent oscillations. Large load transient applications require larger output capacitors to limit peak voltage transients. See the (See Datasheet)", 4 IN (power) "Input. The IN pin supplies power to the device. The LT3009 requires a bypass capacitor at IN if the device is more than six inches away from the main input fi lter capacitor. In general, the output impedance of a battery (See Datasheet)", 5 ~{SHDN} (in) "Shutdown. Pulling the S\H\D\N\ pin low puts the LT3009 into a low power state and turns the output off. If unused, tie the S\H\D\N\ pin to VIN. The LT3009 does not function if the S\H\D\N\ pin is not connected. The S\H\D\N\ (See Datasheet)", 6 GND (power) "Ground. Connect the bottom of the resistor divider that sets output voltage directly to GND for the best regulation.", 7 EP (power) "Ground. The Exposed Pad (backside) of the DFN package is an electrical connection to GND. To ensure optimum performance, solder Pin 7 to the PCB and tie directly to Pin 6."

## LT3009IDC-1.5#PBF
designator U?
3 uA IQ, 20 mA Low Dropout Linear Regulator, 1.6 to 20 V Vin, 1.5 V Vout, 6-pin SON (DC6-6), -40 to 125 degC, Pb-Free; Manufacturer: Linear Technology; PartNumber: LT3009IDC-1.5#PBF; Discrete Pass Element: no; Dropout Voltage(V): 0.28; Iout(mA): 20; Isupply(mA): 0.003; Noise(uV): 150; Number of Outputs: 1; Output Voltage: 1.5 V; PSRR(dB): 67; Vin Min(V): 1.6; DatasheetVersion: Rev. D; PackageVersion: Rev. B, 06/2010; PackageReference: DC6-6; PackageDescription: 6-Pin Plastic DFN, Body 2 x 2 mm, Pitch 0.5 mm; RoHS: TRUE; Shutdown Current(uA): 1; Vin Max(V): 20; Mounting Technology: Surface Mount; Code_JEDEC: MO-229; ComponentLink1Description: Manufacturer URL; ComponentLink1URL: http://www.linear.com/; ComponentLink2Description: Datasheet; ComponentLink2URL: http://cds.linear.com/docs/en/datasheet/3009fd.pdf; ComponentLink3Description: Package Specification; ComponentLink3URL: http://cds.linear.com/docs/en/packaging/DFN_6_05-08-1703.pdf
footprint LT-DC6-6_V (SON, 6-Leads, Body 2x2mm, Pitch 0.5mm, Thermal Pad 1.42x0.61mm)
pins: 1 NC "No Connect. For the adjustable voltage version, Pin 8 is an NC pin in the SC70 package. For the fi xed voltage versions, Pin 7 and Pin 8 are NC pins in the SC70 package, and Pin 1 is an NC pin in the DFN package. NC pins are (See Datasheet)", 2 OUT (power) "Output. This pin supplies power to the load. Use a minimum output capacitor of 1uF to prevent oscillations. Large load transient applications require larger output capacitors to limit peak voltage transients. See the (See Datasheet)", 3 OUT (power) "Output. This pin supplies power to the load. Use a minimum output capacitor of 1uF to prevent oscillations. Large load transient applications require larger output capacitors to limit peak voltage transients. See the (See Datasheet)", 4 IN (power) "Input. The IN pin supplies power to the device. The LT3009 requires a bypass capacitor at IN if the device is more than six inches away from the main input fi lter capacitor. In general, the output impedance of a battery (See Datasheet)", 5 ~{SHDN} (in) "Shutdown. Pulling the S\H\D\N\ pin low puts the LT3009 into a low power state and turns the output off. If unused, tie the S\H\D\N\ pin to VIN. The LT3009 does not function if the S\H\D\N\ pin is not connected. The S\H\D\N\ (See Datasheet)", 6 GND (power) "Ground. Connect the bottom of the resistor divider that sets output voltage directly to GND for the best regulation.", 7 EP (power) "Ground. The Exposed Pad (backside) of the DFN package is an electrical connection to GND. To ensure optimum performance, solder Pin 7 to the PCB and tie directly to Pin 6."

## LT3009IDC-1.5#TRMPBF
designator U?
3 uA IQ, 20 mA Low Dropout Linear Regulator, 1.6 to 20 V Vin, 1.5 V Vout, 6-pin SON (DC6-6), -40 to 125 degC, Pb-Free, Mini Tape and Reel; Manufacturer: Linear Technology; PartNumber: LT3009IDC-1.5#TRMPBF; Discrete Pass Element: no; Dropout Voltage(V): 0.28; Iout(mA): 20; Isupply(mA): 0.003; Noise(uV): 150; Number of Outputs: 1; Output Voltage: 1.5 V; PSRR(dB): 67; Vin Min(V): 1.6; DatasheetVersion: Rev. D; PackageVersion: Rev. B, 06/2010; PackageReference: DC6-6; PackageDescription: 6-Pin Plastic DFN, Body 2 x 2 mm, Pitch 0.5 mm; Supplier 1: Digi-Key; Supplier Part Number 1: LT3009IDC-1.5#TRMPBF-ND; Packing: Mini Tape and Reel; RoHS: TRUE; Shutdown Current(uA): 1; Vin Max(V): 20; Mounting Technology: Surface Mount; Code_JEDEC: MO-229; ComponentLink1Description: Manufacturer URL; ComponentLink1URL: http://www.linear.com/; ComponentLink2Description: Datasheet; ComponentLink2URL: http://cds.linear.com/docs/en/datasheet/3009fd.pdf; ComponentLink3Description: Package Specification; ComponentLink3URL: http://cds.linear.com/docs/en/packaging/DFN_6_05-08-1703.pdf
footprint LT-DC6-6_V (SON, 6-Leads, Body 2x2mm, Pitch 0.5mm, Thermal Pad 1.42x0.61mm)
pins: 1 NC "No Connect. For the adjustable voltage version, Pin 8 is an NC pin in the SC70 package. For the fi xed voltage versions, Pin 7 and Pin 8 are NC pins in the SC70 package, and Pin 1 is an NC pin in the DFN package. NC pins are (See Datasheet)", 2 OUT (power) "Output. This pin supplies power to the load. Use a minimum output capacitor of 1uF to prevent oscillations. Large load transient applications require larger output capacitors to limit peak voltage transients. See the (See Datasheet)", 3 OUT (power) "Output. This pin supplies power to the load. Use a minimum output capacitor of 1uF to prevent oscillations. Large load transient applications require larger output capacitors to limit peak voltage transients. See the (See Datasheet)", 4 IN (power) "Input. The IN pin supplies power to the device. The LT3009 requires a bypass capacitor at IN if the device is more than six inches away from the main input fi lter capacitor. In general, the output impedance of a battery (See Datasheet)", 5 ~{SHDN} (in) "Shutdown. Pulling the S\H\D\N\ pin low puts the LT3009 into a low power state and turns the output off. If unused, tie the S\H\D\N\ pin to VIN. The LT3009 does not function if the S\H\D\N\ pin is not connected. The S\H\D\N\ (See Datasheet)", 6 GND (power) "Ground. Connect the bottom of the resistor divider that sets output voltage directly to GND for the best regulation.", 7 EP (power) "Ground. The Exposed Pad (backside) of the DFN package is an electrical connection to GND. To ensure optimum performance, solder Pin 7 to the PCB and tie directly to Pin 6."

## LT3009IDC-1.5#TRPBF
designator U?
3 uA IQ, 20 mA Low Dropout Linear Regulator, 1.6 to 20 V Vin, 1.5 V Vout, 6-pin SON (DC6-6), -40 to 125 degC, Pb-Free, Tape and Reel; Manufacturer: Linear Technology; PartNumber: LT3009IDC-1.5#TRPBF; Discrete Pass Element: no; Dropout Voltage(V): 0.28; Iout(mA): 20; Isupply(mA): 0.003; Noise(uV): 150; Number of Outputs: 1; Output Voltage: 1.5 V; PSRR(dB): 67; Vin Min(V): 1.6; DatasheetVersion: Rev. D; PackageVersion: Rev. B, 06/2010; PackageReference: DC6-6; PackageDescription: 6-Pin Plastic DFN, Body 2 x 2 mm, Pitch 0.5 mm; Supplier 1: Digi-Key; Supplier Part Number 1: LT3009IDC-1.5#TRPBF-ND; Packing: Tape and Reel; RoHS: TRUE; Shutdown Current(uA): 1; Vin Max(V): 20; Mounting Technology: Surface Mount; Code_JEDEC: MO-229; ComponentLink1Description: Manufacturer URL; ComponentLink1URL: http://www.linear.com/; ComponentLink2Description: Datasheet; ComponentLink2URL: http://cds.linear.com/docs/en/datasheet/3009fd.pdf; ComponentLink3Description: Package Specification; ComponentLink3URL: http://cds.linear.com/docs/en/packaging/DFN_6_05-08-1703.pdf
footprint LT-DC6-6_V (SON, 6-Leads, Body 2x2mm, Pitch 0.5mm, Thermal Pad 1.42x0.61mm)
pins: 1 NC "No Connect. For the adjustable voltage version, Pin 8 is an NC pin in the SC70 package. For the fi xed voltage versions, Pin 7 and Pin 8 are NC pins in the SC70 package, and Pin 1 is an NC pin in the DFN package. NC pins are (See Datasheet)", 2 OUT (power) "Output. This pin supplies power to the load. Use a minimum output capacitor of 1uF to prevent oscillations. Large load transient applications require larger output capacitors to limit peak voltage transients. See the (See Datasheet)", 3 OUT (power) "Output. This pin supplies power to the load. Use a minimum output capacitor of 1uF to prevent oscillations. Large load transient applications require larger output capacitors to limit peak voltage transients. See the (See Datasheet)", 4 IN (power) "Input. The IN pin supplies power to the device. The LT3009 requires a bypass capacitor at IN if the device is more than six inches away from the main input fi lter capacitor. In general, the output impedance of a battery (See Datasheet)", 5 ~{SHDN} (in) "Shutdown. Pulling the S\H\D\N\ pin low puts the LT3009 into a low power state and turns the output off. If unused, tie the S\H\D\N\ pin to VIN. The LT3009 does not function if the S\H\D\N\ pin is not connected. The S\H\D\N\ (See Datasheet)", 6 GND (power) "Ground. Connect the bottom of the resistor divider that sets output voltage directly to GND for the best regulation.", 7 EP (power) "Ground. The Exposed Pad (backside) of the DFN package is an electrical connection to GND. To ensure optimum performance, solder Pin 7 to the PCB and tie directly to Pin 6."

## LT3009IDC-1.8#PBF
designator U?
3 uA IQ, 20 mA Low Dropout Linear Regulator, 1.6 to 20 V Vin, 1.8 V Vout, 6-pin SON (DC6-6), -40 to 125 degC, Pb-Free; Manufacturer: Linear Technology; PartNumber: LT3009IDC-1.8#PBF; Discrete Pass Element: no; Dropout Voltage(V): 0.28; Iout(mA): 20; Isupply(mA): 0.003; Noise(uV): 150; Number of Outputs: 1; Output Voltage: 1.8 V; PSRR(dB): 66; Vin Min(V): 1.6; DatasheetVersion: Rev. D; PackageVersion: Rev. B, 06/2010; PackageReference: DC6-6; PackageDescription: 6-Pin Plastic DFN, Body 2 x 2 mm, Pitch 0.5 mm; Supplier 1: Newark; Supplier Part Number 1: 78T3823; RoHS: TRUE; Shutdown Current(uA): 1; Vin Max(V): 20; Mounting Technology: Surface Mount; Code_JEDEC: MO-229; ComponentLink1Description: Manufacturer URL; ComponentLink1URL: http://www.linear.com/; ComponentLink2Description: Datasheet; ComponentLink2URL: http://cds.linear.com/docs/en/datasheet/3009fd.pdf; ComponentLink3Description: Package Specification; ComponentLink3URL: http://cds.linear.com/docs/en/packaging/DFN_6_05-08-1703.pdf
footprint LT-DC6-6_V (SON, 6-Leads, Body 2x2mm, Pitch 0.5mm, Thermal Pad 1.42x0.61mm)
pins: 1 NC "No Connect. For the adjustable voltage version, Pin 8 is an NC pin in the SC70 package. For the fi xed voltage versions, Pin 7 and Pin 8 are NC pins in the SC70 package, and Pin 1 is an NC pin in the DFN package. NC pins are (See Datasheet)", 2 OUT (power) "Output. This pin supplies power to the load. Use a minimum output capacitor of 1uF to prevent oscillations. Large load transient applications require larger output capacitors to limit peak voltage transients. See the (See Datasheet)", 3 OUT (power) "Output. This pin supplies power to the load. Use a minimum output capacitor of 1uF to prevent oscillations. Large load transient applications require larger output capacitors to limit peak voltage transients. See the (See Datasheet)", 4 IN (power) "Input. The IN pin supplies power to the device. The LT3009 requires a bypass capacitor at IN if the device is more than six inches away from the main input fi lter capacitor. In general, the output impedance of a battery (See Datasheet)", 5 ~{SHDN} (in) "Shutdown. Pulling the S\H\D\N\ pin low puts the LT3009 into a low power state and turns the output off. If unused, tie the S\H\D\N\ pin to VIN. The LT3009 does not function if the S\H\D\N\ pin is not connected. The S\H\D\N\ (See Datasheet)", 6 GND (power) "Ground. Connect the bottom of the resistor divider that sets output voltage directly to GND for the best regulation.", 7 EP (power) "Ground. The Exposed Pad (backside) of the DFN package is an electrical connection to GND. To ensure optimum performance, solder Pin 7 to the PCB and tie directly to Pin 6."